# Altium integrated library Altium_WE-MAIA (rev24b).IntLib: 166 symbols (part 1 of 4)
Pins are listed as number, name and electrical type; pins without a type are passive.

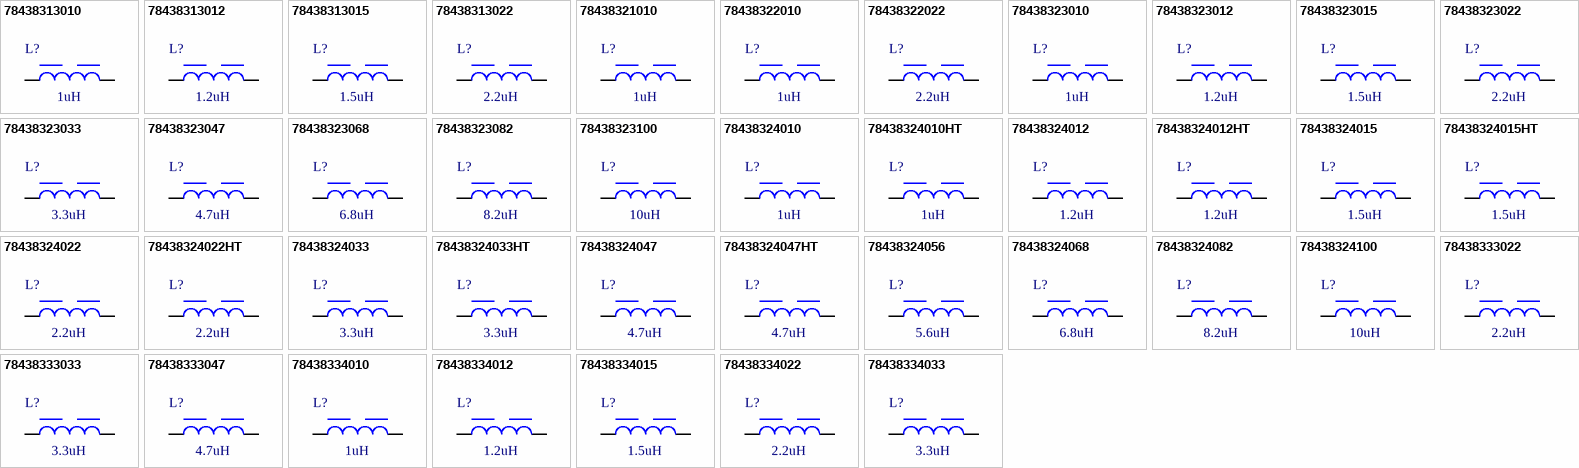
[diagram p0: symbols 78438313010 to 78438334033]

## 78438313010
designator L?, comment 1uH
WE-MAIA SMT Power Inductor, size 1610, 1uH, 2.2A, 159mOhm; Manufacturer Part Number: 78438313010; Manufacturer: Wurth Elektronik; Case/Size Code: 1610; Saturation Current @ 10%: 2.25A; Saturation Current @ 30%: 4.25A; Self Resonant Frequency: 111MHz; Category: Power Inductors; Match Code: WE-MAIA; ComponentLink1Description: Website Link; ComponentLink1URL: https://www.we-online.com/redexpert/article/78438313010?ad; ComponentLink2Description: Datasheet Link; ComponentLink2URL: https://www.we-online.com/redexpert/spec/78438313010?ad; Mount: Surface Mount; Operating Temperature Max: 125°C; Operating Temperature Min: -40°C; Packaging: Tape and Reel; Length: 1.6mm; Width: 1.6mm; Height: 1mm; Automotive: Yes; DC Resistance Max: 159mOhm; Inductance: 1uH; Rated Current: 2.2A
footprint WE-MAIA_1610
simulation model 1610_78438313010_1u
pins: 1, 2

## 78438313012
designator L?, comment 1.2uH
WE-MAIA SMT Power Inductor, size 1610, 1.2uH, 2.1A, 174mOhm; Manufacturer Part Number: 78438313012; Manufacturer: Wurth Elektronik; Case/Size Code: 1610; Saturation Current @ 10%: 2.2A; Saturation Current @ 30%: 4.1A; Self Resonant Frequency: 109MHz; Category: Power Inductors; Match Code: WE-MAIA; ComponentLink1Description: Website Link; ComponentLink1URL: https://www.we-online.com/redexpert/article/78438313012?ad; ComponentLink2Description: Datasheet Link; ComponentLink2URL: https://www.we-online.com/redexpert/spec/78438313012?ad; Mount: Surface Mount; Operating Temperature Max: 125°C; Operating Temperature Min: -40°C; Packaging: Tape and Reel; Length: 1.6mm; Width: 1.6mm; Height: 1mm; Automotive: Yes; DC Resistance Max: 174mOhm; Inductance: 1.2uH; Rated Current: 2.1A
footprint WE-MAIA_1610
simulation model 1610_78438313012_1.2u
pins: 1, 2

## 78438313015
designator L?, comment 1.5uH
WE-MAIA SMT Power Inductor, size 1610, 1.5uH, 1.8A, 237mOhm; Manufacturer Part Number: 78438313015; Manufacturer: Wurth Elektronik; Case/Size Code: 1610; Saturation Current @ 30%: 3.45A; Self Resonant Frequency: 90MHz; Category: Power Inductors; Match Code: WE-MAIA; ComponentLink1Description: Website Link; ComponentLink1URL: https://www.we-online.com/redexpert/article/78438313015?ad; ComponentLink2Description: Datasheet Link; ComponentLink2URL: https://www.we-online.com/redexpert/spec/78438313015?ad; Mount: Surface Mount; Operating Temperature Max: 125°C; Operating Temperature Min: -40°C; Packaging: Tape and Reel; Length: 1.6mm; Width: 1.6mm; Height: 1mm; Automotive: Yes; DC Resistance Max: 237mOhm; Inductance: 1.5uH; Rated Current: 1.8A; Saturation Current @ 10%: 1.8A
footprint WE-MAIA_1610
simulation model 1610_78438313015_1.5u
pins: 1, 2

## 78438313022
designator L?, comment 2.2uH
WE-MAIA SMT Power Inductor, size 1610, 2.2uH, 1.25A, 388mOhm; Manufacturer Part Number: 78438313022; Manufacturer: Wurth Elektronik; Case/Size Code: 1610; Saturation Current @ 10%: 1.5A; Saturation Current @ 30%: 3.25A; Self Resonant Frequency: 70MHz; Category: Power Inductors; Match Code: WE-MAIA; ComponentLink1Description: Website Link; ComponentLink1URL: https://www.we-online.com/redexpert/article/78438313022?ad; ComponentLink2Description: Datasheet Link; ComponentLink2URL: https://www.we-online.com/redexpert/spec/78438313022?ad; Mount: Surface Mount; Operating Temperature Max: 125°C; Operating Temperature Min: -40°C; Packaging: Tape and Reel; Length: 1.6mm; Width: 1.6mm; Height: 1mm; Automotive: Yes; DC Resistance Max: 388mOhm; Inductance: 2.2uH; Rated Current: 1.25A
footprint WE-MAIA_1610
simulation model 1610_78438313022_2.2u
pins: 1, 2

## 78438321010
designator L?, comment 1uH
WE-MAIA SMT Power Inductor, size 2506, 1uH, 2.1A, 196mOhm; Manufacturer Part Number: 78438321010; Manufacturer: Wurth Elektronik; Case/Size Code: 2506; Saturation Current @ 10%: 1.7A; Saturation Current @ 30%: 3.25A; Self Resonant Frequency: 90MHz; Category: Power Inductors; Match Code: WE-MAIA; ComponentLink1Description: Website Link; ComponentLink1URL: https://www.we-online.com/redexpert/article/78438321010?ad; ComponentLink2Description: Datasheet Link; ComponentLink2URL: https://www.we-online.com/redexpert/spec/78438321010?ad; Mount: Surface Mount; Operating Temperature Max: 125°C; Operating Temperature Min: -40°C; Packaging: Tape and Reel; Length: 2.5mm; Width: 2mm; Height: 0.6mm; Automotive: Yes; DC Resistance Max: 196mOhm; Inductance: 1uH; Rated Current: 2.1A
footprint WE-MAIA_2506
simulation model 2506_78438321010_1u
pins: 1, 2

## 78438322010
designator L?, comment 1uH
WE-MAIA SMT Power Inductor, size 2508, 1uH, 2.65A, 133mOhm; Manufacturer Part Number: 78438322010; Manufacturer: Wurth Elektronik; Case/Size Code: 2508; Saturation Current @ 10%: 2.15A; Saturation Current @ 30%: 4.4A; Self Resonant Frequency: 100MHz; Category: Power Inductors; Match Code: WE-MAIA; ComponentLink1Description: Website Link; ComponentLink1URL: https://www.we-online.com/redexpert/article/78438322010?ad; ComponentLink2Description: Datasheet Link; ComponentLink2URL: https://www.we-online.com/redexpert/spec/78438322010?ad; Mount: Surface Mount; Operating Temperature Max: 125°C; Operating Temperature Min: -40°C; Packaging: Tape and Reel; Length: 2.5mm; Width: 2mm; Height: 0.8mm; Automotive: Yes; DC Resistance Max: 133mOhm; Inductance: 1uH; Rated Current: 2.65A
footprint WE-MAIA_2508
simulation model 2508_78438322010_1u
pins: 1, 2

## 78438322022
designator L?, comment 2.2uH
WE-MAIA SMT Power Inductor, size 2508, 2.2uH, 1.65A, 302mOhm; Manufacturer Part Number: 78438322022; Manufacturer: Wurth Elektronik; Case/Size Code: 2508; Saturation Current @ 10%: 1.4A; Saturation Current @ 30%: 2.8A; Self Resonant Frequency: 60MHz; Category: Power Inductors; Match Code: WE-MAIA; ComponentLink1Description: Website Link; ComponentLink1URL: https://www.we-online.com/redexpert/article/78438322022?ad; ComponentLink2Description: Datasheet Link; ComponentLink2URL: https://www.we-online.com/redexpert/spec/78438322022?ad; Mount: Surface Mount; Operating Temperature Max: 125°C; Operating Temperature Min: -40°C; Packaging: Tape and Reel; Length: 2.5mm; Width: 2mm; Height: 0.8mm; Automotive: Yes; DC Resistance Max: 302mOhm; Inductance: 2.2uH; Rated Current: 1.65A
footprint WE-MAIA_2508
simulation model 2508_78438322022_2.2u
pins: 1, 2

## 78438323010
designator L?, comment 1uH
WE-MAIA SMT Power Inductor, size 2510, 1uH, 3.55A, 75mOhm; Manufacturer Part Number: 78438323010; Manufacturer: Wurth Elektronik; Case/Size Code: 2510; Saturation Current @ 10%: 2.6A; Saturation Current @ 30%: 5.3A; Self Resonant Frequency: 80MHz; Category: Power Inductors; Match Code: WE-MAIA; ComponentLink1Description: Website Link; ComponentLink1URL: https://www.we-online.com/redexpert/article/78438323010?ad; ComponentLink2Description: Datasheet Link; ComponentLink2URL: https://www.we-online.com/redexpert/spec/78438323010?ad; Mount: Surface Mount; Operating Temperature Max: 125°C; Operating Temperature Min: -40°C; Packaging: Tape and Reel; Length: 2.5mm; Width: 2mm; Height: 1mm; Automotive: Yes; DC Resistance Max: 75mOhm; Inductance: 1uH; Rated Current: 3.55A
footprint WE-MAIA_2510
simulation model 2510_78438323010_1u
pins: 1, 2

## 78438323012
designator L?, comment 1.2uH
WE-MAIA SMT Power Inductor, size 2510, 1.2uH, 3.05A, 106mOhm; Manufacturer Part Number: 78438323012; Manufacturer: Wurth Elektronik; Case/Size Code: 2510; Saturation Current @ 10%: 2.45A; Saturation Current @ 30%: 4.85A; Self Resonant Frequency: 75MHz; Category: Power Inductors; Match Code: WE-MAIA; ComponentLink1Description: Website Link; ComponentLink1URL: https://www.we-online.com/redexpert/article/78438323012?ad; ComponentLink2Description: Datasheet Link; ComponentLink2URL: https://www.we-online.com/redexpert/spec/78438323012?ad; Mount: Surface Mount; Operating Temperature Max: 125°C; Operating Temperature Min: -40°C; Packaging: Tape and Reel; Length: 2.5mm; Width: 2mm; Height: 1mm; Automotive: Yes; DC Resistance Max: 106mOhm; Inductance: 1.2uH; Rated Current: 3.05A
footprint WE-MAIA_2510
simulation model 2510_78438323012_1.2u
pins: 1, 2

## 78438323015
designator L?, comment 1.5uH
WE-MAIA SMT Power Inductor, size 2510, 1.5uH, 2.85A, 110mOhm; Manufacturer Part Number: 78438323015; Manufacturer: Wurth Elektronik; Case/Size Code: 2510; Saturation Current @ 10%: 2.25A; Saturation Current @ 30%: 4.75A; Self Resonant Frequency: 65MHz; Category: Power Inductors; Match Code: WE-MAIA; ComponentLink1Description: Website Link; ComponentLink1URL: https://www.we-online.com/redexpert/article/78438323015?ad; ComponentLink2Description: Datasheet Link; ComponentLink2URL: https://www.we-online.com/redexpert/spec/78438323015?ad; Mount: Surface Mount; Operating Temperature Max: 125°C; Operating Temperature Min: -40°C; Packaging: Tape and Reel; Length: 2.5mm; Width: 2mm; Height: 1mm; Automotive: Yes; DC Resistance Max: 110mOhm; Inductance: 1.5uH; Rated Current: 2.85A
footprint WE-MAIA_2510
simulation model 2510_78438323015_1.5u
pins: 1, 2

## 78438323022
designator L?, comment 2.2uH
WE-MAIA SMT Power Inductor, size 2510, 2.2uH, 2.2A, 176mOhm; Manufacturer Part Number: 78438323022; Manufacturer: Wurth Elektronik; Case/Size Code: 2510; Saturation Current @ 10%: 2A; Saturation Current @ 30%: 3.55A; Self Resonant Frequency: 60MHz; Category: Power Inductors; Match Code: WE-MAIA; ComponentLink1Description: Website Link; ComponentLink1URL: https://www.we-online.com/redexpert/article/78438323022?ad; ComponentLink2Description: Datasheet Link; ComponentLink2URL: https://www.we-online.com/redexpert/spec/78438323022?ad; Mount: Surface Mount; Operating Temperature Max: 125°C; Operating Temperature Min: -40°C; Packaging: Tape and Reel; Length: 2.5mm; Width: 2mm; Height: 1mm; Automotive: Yes; DC Resistance Max: 176mOhm; Inductance: 2.2uH; Rated Current: 2.2A
footprint WE-MAIA_2510
simulation model 2510_78438323022_2.2u
pins: 1, 2

## 78438323033
designator L?, comment 3.3uH
WE-MAIA SMT Power Inductor, size 2510, 3.3uH, 1.75A, 264mOhm; Manufacturer Part Number: 78438323033; Manufacturer: Wurth Elektronik; Case/Size Code: 2510; Saturation Current @ 10%: 1.35A; Saturation Current @ 30%: 2.7A; Self Resonant Frequency: 50MHz; Category: Power Inductors; Match Code: WE-MAIA; ComponentLink1Description: Website Link; ComponentLink1URL: https://www.we-online.com/redexpert/article/78438323033?ad; ComponentLink2Description: Datasheet Link; ComponentLink2URL: https://www.we-online.com/redexpert/spec/78438323033?ad; Mount: Surface Mount; Operating Temperature Max: 125°C; Operating Temperature Min: -40°C; Packaging: Tape and Reel; Length: 2.5mm; Width: 2mm; Height: 1mm; Automotive: Yes; DC Resistance Max: 264mOhm; Inductance: 3.3uH; Rated Current: 1.75A
footprint WE-MAIA_2510
simulation model 2510_78438323033_3.3u
pins: 1, 2

## 78438323047
designator L?, comment 4.7uH
WE-MAIA SMT Power Inductor, size 2510, 4.7uH, 1.4A, 388mOhm; Manufacturer Part Number: 78438323047; Manufacturer: Wurth Elektronik; Case/Size Code: 2510; Saturation Current @ 10%: 1.1A; Saturation Current @ 30%: 2.3A; Self Resonant Frequency: 35MHz; Category: Power Inductors; Match Code: WE-MAIA; ComponentLink1Description: Website Link; ComponentLink1URL: https://www.we-online.com/redexpert/article/78438323047?ad; ComponentLink2Description: Datasheet Link; ComponentLink2URL: https://www.we-online.com/redexpert/spec/78438323047?ad; Mount: Surface Mount; Operating Temperature Max: 125°C; Operating Temperature Min: -40°C; Packaging: Tape and Reel; Length: 2.5mm; Width: 2mm; Height: 1mm; Automotive: Yes; DC Resistance Max: 388mOhm; Inductance: 4.7uH; Rated Current: 1.4A
footprint WE-MAIA_2510
simulation model 2510_78438323047_4.7u
pins: 1, 2

## 78438323068
designator L?, comment 6.8uH
WE-MAIA SMT Power Inductor, size 2510, 6.8uH, 1.05A, 648mOhm; Manufacturer Part Number: 78438323068; Manufacturer: Wurth Elektronik; Case/Size Code: 2510; Saturation Current @ 30%: 2A; Self Resonant Frequency: 30MHz; Category: Power Inductors; Match Code: WE-MAIA; ComponentLink1Description: Website Link; ComponentLink1URL: https://www.we-online.com/redexpert/article/78438323068?ad; ComponentLink2Description: Datasheet Link; ComponentLink2URL: https://www.we-online.com/redexpert/spec/78438323068?ad; Mount: Surface Mount; Operating Temperature Max: 125°C; Operating Temperature Min: -40°C; Packaging: Tape and Reel; Length: 2.5mm; Width: 2mm; Height: 1mm; Automotive: Yes; DC Resistance Max: 648mOhm; Inductance: 6.8uH; Rated Current: 1.05A; Saturation Current @ 10%: 1.05A
footprint WE-MAIA_2510
simulation model 2510_78438323068_6.8u
pins: 1, 2

## 78438323082
designator L?, comment 8.2uH
WE-MAIA SMT Power Inductor, size 2510, 8.2uH, 0.95A, 743mOhm; Manufacturer Part Number: 78438323082; Manufacturer: Wurth Elektronik; Case/Size Code: 2510; Saturation Current @ 10%: 0.9A; Saturation Current @ 30%: 1.85A; Self Resonant Frequency: 27MHz; Category: Power Inductors; Match Code: WE-MAIA; ComponentLink1Description: Website Link; ComponentLink1URL: https://www.we-online.com/redexpert/article/78438323082?ad; ComponentLink2Description: Datasheet Link; ComponentLink2URL: https://www.we-online.com/redexpert/spec/78438323082?ad; Mount: Surface Mount; Operating Temperature Max: 125°C; Operating Temperature Min: -40°C; Packaging: Tape and Reel; Length: 2.5mm; Width: 2mm; Height: 1mm; Automotive: Yes; DC Resistance Max: 743mOhm; Inductance: 8.2uH; Rated Current: 0.95A
footprint WE-MAIA_2510
simulation model 2510_78438323082_8.2u
pins: 1, 2

## 78438323100
designator L?, comment 10uH
WE-MAIA SMT Power Inductor, size 2510, 10uH, 0.9A, 843mOhm; Manufacturer Part Number: 78438323100; Manufacturer: Wurth Elektronik; Case/Size Code: 2510; Saturation Current @ 10%: 0.85A; Saturation Current @ 30%: 1.7A; Self Resonant Frequency: 25MHz; Category: Power Inductors; Match Code: WE-MAIA; ComponentLink1Description: Website Link; ComponentLink1URL: https://www.we-online.com/redexpert/article/78438323100?ad; ComponentLink2Description: Datasheet Link; ComponentLink2URL: https://www.we-online.com/redexpert/spec/78438323100?ad; Mount: Surface Mount; Operating Temperature Max: 125°C; Operating Temperature Min: -40°C; Packaging: Tape and Reel; Length: 2.5mm; Width: 2mm; Height: 1mm; Automotive: Yes; DC Resistance Max: 843mOhm; Inductance: 10uH; Rated Current: 0.9A
footprint WE-MAIA_2510
simulation model 2510_78438323100_10u
pins: 1, 2

## 78438324010
designator L?, comment 1uH
WE-MAIA SMT Power Inductor, size 2512, 1uH, 4.05A, 60mOhm; Manufacturer Part Number: 78438324010; Manufacturer: Wurth Elektronik; Case/Size Code: 2512; Saturation Current @ 10%: 3.2A; Saturation Current @ 30%: 6.3A; Self Resonant Frequency: 85MHz; Category: Power Inductors; Match Code: WE-MAIA; ComponentLink1Description: Website Link; ComponentLink1URL: https://www.we-online.com/redexpert/article/78438324010?ad; ComponentLink2Description: Datasheet Link; ComponentLink2URL: https://www.we-online.com/redexpert/spec/78438324010?ad; Mount: Surface Mount; Operating Temperature Max: 125°C; Operating Temperature Min: -40°C; Packaging: Tape and Reel; Length: 2.5mm; Width: 2mm; Height: 1.2mm; Automotive: Yes; DC Resistance Max: 60mOhm; Inductance: 1uH; Rated Current: 4.05A
footprint WE-MAIA_2512
simulation model 2512_78438324010_1u
pins: 1, 2

## 78438324010HT
designator L?, comment 1uH
WE-MAIA SMT Power Inductor, size 2512HT, 1uH, 3.9A, 61.5mOhm; Manufacturer Part Number: 78438324010HT; Manufacturer: Wurth Elektronik; Saturation Current @ 10%: 2.2A; Saturation Current @ 30%: 4.8A; Self Resonant Frequency: 71MHz; Category: Power Inductors; Match Code: WE-MAIA; ComponentLink1Description: Website Link; ComponentLink1URL: https://www.we-online.com/redexpert/article/78438324010HT?ad; ComponentLink2Description: Datasheet Link; ComponentLink2URL: https://www.we-online.com/redexpert/spec/78438324010HT?ad; Mount: Surface Mount; Operating Temperature Max: 150°C; Operating Temperature Min: -55°C; Packaging: Tape and Reel; Case/Size Code: 2512HT; Length: 2.5mm; Width: 2mm; Height: 1.2mm; Automotive: Yes; DC Resistance Max: 61.5mOhm; Inductance: 1uH; Rated Current: 3.9A
footprint WE-MAIA_2512HT
simulation model 2512HT_78438324010HT_1u
pins: 1, 2

## 78438324012
designator L?, comment 1.2uH
WE-MAIA SMT Power Inductor, size 2512, 1.2uH, 3.4A, 80mOhm; Manufacturer Part Number: 78438324012; Manufacturer: Wurth Elektronik; Case/Size Code: 2512; Saturation Current @ 10%: 3.05A; Saturation Current @ 30%: 5.8A; Self Resonant Frequency: 80MHz; Category: Power Inductors; Match Code: WE-MAIA; ComponentLink1Description: Website Link; ComponentLink1URL: https://www.we-online.com/redexpert/article/78438324012?ad; ComponentLink2Description: Datasheet Link; ComponentLink2URL: https://www.we-online.com/redexpert/spec/78438324012?ad; Mount: Surface Mount; Operating Temperature Max: 125°C; Operating Temperature Min: -40°C; Packaging: Tape and Reel; Length: 2.5mm; Width: 2mm; Height: 1.2mm; Automotive: Yes; DC Resistance Max: 80mOhm; Inductance: 1.2uH; Rated Current: 3.4A
footprint WE-MAIA_2512
simulation model 2512_78438324012_1.2u
pins: 1, 2

## 78438324012HT
designator L?, comment 1.2uH
WE-MAIA SMT Power Inductor, size 2512HT, 1.2uH, 3.5A, 74.7mOhm; Manufacturer Part Number: 78438324012HT; Manufacturer: Wurth Elektronik; Saturation Current @ 10%: 2.3A; Saturation Current @ 30%: 4.7A; Self Resonant Frequency: 67MHz; Category: Power Inductors; Match Code: WE-MAIA; ComponentLink1Description: Website Link; ComponentLink1URL: https://www.we-online.com/redexpert/article/78438324012HT?ad; ComponentLink2Description: Datasheet Link; ComponentLink2URL: https://www.we-online.com/redexpert/spec/78438324012HT?ad; Mount: Surface Mount; Operating Temperature Max: 150°C; Operating Temperature Min: -55°C; Packaging: Tape and Reel; Case/Size Code: 2512HT; Length: 2.5mm; Width: 2mm; Height: 1.2mm; Automotive: Yes; DC Resistance Max: 74.7mOhm; Inductance: 1.2uH; Rated Current: 3.5A
footprint WE-MAIA_2512HT
simulation model 2512HT_78438324012HT_1.2u
pins: 1, 2

## 78438324015
designator L?, comment 1.5uH
WE-MAIA SMT Power Inductor, size 2512, 1.5uH, 3.05A, 99mOhm; Manufacturer Part Number: 78438324015; Manufacturer: Wurth Elektronik; Case/Size Code: 2512; Saturation Current @ 10%: 2.5A; Saturation Current @ 30%: 4.7A; Self Resonant Frequency: 60MHz; Category: Power Inductors; Match Code: WE-MAIA; ComponentLink1Description: Website Link; ComponentLink1URL: https://www.we-online.com/redexpert/article/78438324015?ad; ComponentLink2Description: Datasheet Link; ComponentLink2URL: https://www.we-online.com/redexpert/spec/78438324015?ad; Mount: Surface Mount; Operating Temperature Max: 125°C; Operating Temperature Min: -40°C; Packaging: Tape and Reel; Length: 2.5mm; Width: 2mm; Height: 1.2mm; Automotive: Yes; DC Resistance Max: 99mOhm; Inductance: 1.5uH; Rated Current: 3.05A
footprint WE-MAIA_2512
simulation model 2512_78438324015_1.5u
pins: 1, 2

## 78438324015HT
designator L?, comment 1.5uH
WE-MAIA SMT Power Inductor, size 2512HT, 1.5uH, 2.9A, 102.1mOhm; Manufacturer Part Number: 78438324015HT; Manufacturer: Wurth Elektronik; Saturation Current @ 10%: 1.9A; Saturation Current @ 30%: 4A; Self Resonant Frequency: 56MHz; Category: Power Inductors; Match Code: WE-MAIA; ComponentLink1Description: Website Link; ComponentLink1URL: https://www.we-online.com/redexpert/article/78438324015HT?ad; ComponentLink2Description: Datasheet Link; ComponentLink2URL: https://www.we-online.com/redexpert/spec/78438324015HT?ad; Mount: Surface Mount; Operating Temperature Max: 150°C; Operating Temperature Min: -55°C; Packaging: Tape and Reel; Case/Size Code: 2512HT; Length: 2.5mm; Width: 2mm; Height: 1.2mm; Automotive: Yes; DC Resistance Max: 102.1mOhm; Inductance: 1.5uH; Rated Current: 2.9A
footprint WE-MAIA_2512HT
simulation model 2512HT_78438324015HT_1.5u
pins: 1, 2

## 78438324022
designator L?, comment 2.2uH
WE-MAIA SMT Power Inductor, size 2512, 2.2uH, 2.45A, 141mOhm; Manufacturer Part Number: 78438324022; Manufacturer: Wurth Elektronik; Case/Size Code: 2512; Saturation Current @ 10%: 1.85A; Saturation Current @ 30%: 3.65A; Self Resonant Frequency: 57MHz; Category: Power Inductors; Match Code: WE-MAIA; ComponentLink1Description: Website Link; ComponentLink1URL: https://www.we-online.com/redexpert/article/78438324022?ad; ComponentLink2Description: Datasheet Link; ComponentLink2URL: https://www.we-online.com/redexpert/spec/78438324022?ad; Mount: Surface Mount; Operating Temperature Max: 125°C; Operating Temperature Min: -40°C; Packaging: Tape and Reel; Length: 2.5mm; Width: 2mm; Height: 1.2mm; Automotive: Yes; DC Resistance Max: 141mOhm; Inductance: 2.2uH; Rated Current: 2.45A
footprint WE-MAIA_2512
simulation model 2512_78438324022_2.2u
pins: 1, 2

## 78438324022HT
designator L?, comment 2.2uH
WE-MAIA SMT Power Inductor, size 2512HT, 2.2uH, 2.2A, 162.5mOhm; Manufacturer Part Number: 78438324022HT; Manufacturer: Wurth Elektronik; Saturation Current @ 10%: 1.6A; Saturation Current @ 30%: 3.5A; Self Resonant Frequency: 53MHz; Category: Power Inductors; Match Code: WE-MAIA; ComponentLink1Description: Website Link; ComponentLink1URL: https://www.we-online.com/redexpert/article/78438324022HT?ad; ComponentLink2Description: Datasheet Link; ComponentLink2URL: https://www.we-online.com/redexpert/spec/78438324022HT?ad; Mount: Surface Mount; Operating Temperature Max: 150°C; Operating Temperature Min: -55°C; Packaging: Tape and Reel; Case/Size Code: 2512HT; Length: 2.5mm; Width: 2mm; Height: 1.2mm; Automotive: Yes; DC Resistance Max: 162.5mOhm; Inductance: 2.2uH; Rated Current: 2.2A
footprint WE-MAIA_2512HT
simulation model 2512HT_78438324022HT_2.2u
pins: 1, 2

## 78438324033
designator L?, comment 3.3uH
WE-MAIA SMT Power Inductor, size 2512, 3.3uH, 1.7A, 260mOhm; Manufacturer Part Number: 78438324033; Manufacturer: Wurth Elektronik; Case/Size Code: 2512; Saturation Current @ 10%: 1.75A; Saturation Current @ 30%: 3.3A; Self Resonant Frequency: 42MHz; Category: Power Inductors; Match Code: WE-MAIA; ComponentLink1Description: Website Link; ComponentLink1URL: https://www.we-online.com/redexpert/article/78438324033?ad; ComponentLink2Description: Datasheet Link; ComponentLink2URL: https://www.we-online.com/redexpert/spec/78438324033?ad; Mount: Surface Mount; Operating Temperature Max: 125°C; Operating Temperature Min: -40°C; Packaging: Tape and Reel; Length: 2.5mm; Width: 2mm; Height: 1.2mm; Automotive: Yes; DC Resistance Max: 260mOhm; Inductance: 3.3uH; Rated Current: 1.7A
footprint WE-MAIA_2512
simulation model 2512_78438324033_3.3u
pins: 1, 2

## 78438324033HT
designator L?, comment 3.3uH
WE-MAIA SMT Power Inductor, size 2512HT, 3.3uH, 1.7A, 274.7mOhm; Manufacturer Part Number: 78438324033HT; Manufacturer: Wurth Elektronik; Saturation Current @ 10%: 1.4A; Saturation Current @ 30%: 3A; Self Resonant Frequency: 42MHz; Category: Power Inductors; Match Code: WE-MAIA; ComponentLink1Description: Website Link; ComponentLink1URL: https://www.we-online.com/redexpert/article/78438324033HT?ad; ComponentLink2Description: Datasheet Link; ComponentLink2URL: https://www.we-online.com/redexpert/spec/78438324033HT?ad; Mount: Surface Mount; Operating Temperature Max: 150°C; Operating Temperature Min: -55°C; Packaging: Tape and Reel; Case/Size Code: 2512HT; Length: 2.5mm; Width: 2mm; Height: 1.2mm; Automotive: Yes; DC Resistance Max: 274.7mOhm; Inductance: 3.3uH; Rated Current: 1.7A
footprint WE-MAIA_2512HT
simulation model 2512HT_78438324033HT_3.3u
pins: 1, 2

## 78438324047
designator L?, comment 4.7uH
WE-MAIA SMT Power Inductor, size 2512, 4.7uH, 1.45A, 345mOhm; Manufacturer Part Number: 78438324047; Manufacturer: Wurth Elektronik; Case/Size Code: 2512; Saturation Current @ 10%: 1.4A; Saturation Current @ 30%: 2.65A; Self Resonant Frequency: 35MHz; Category: Power Inductors; Match Code: WE-MAIA; ComponentLink1Description: Website Link; ComponentLink1URL: https://www.we-online.com/redexpert/article/78438324047?ad; ComponentLink2Description: Datasheet Link; ComponentLink2URL: https://www.we-online.com/redexpert/spec/78438324047?ad; Mount: Surface Mount; Operating Temperature Max: 125°C; Operating Temperature Min: -40°C; Packaging: Tape and Reel; Length: 2.5mm; Width: 2mm; Height: 1.2mm; Automotive: Yes; DC Resistance Max: 345mOhm; Inductance: 4.7uH; Rated Current: 1.45A
footprint WE-MAIA_2512
simulation model 2512_78438324047_4.7u
pins: 1, 2

## 78438324047HT
designator L?, comment 4.7uH
WE-MAIA SMT Power Inductor, size 2512HT, 4.7uH, 1.4A, 367.6mOhm; Manufacturer Part Number: 78438324047HT; Manufacturer: Wurth Elektronik; Saturation Current @ 10%: 1.1A; Saturation Current @ 30%: 2.4A; Self Resonant Frequency: 33MHz; Category: Power Inductors; Match Code: WE-MAIA; ComponentLink1Description: Website Link; ComponentLink1URL: https://www.we-online.com/redexpert/article/78438324047HT?ad; ComponentLink2Description: Datasheet Link; ComponentLink2URL: https://www.we-online.com/redexpert/spec/78438324047HT?ad; Mount: Surface Mount; Operating Temperature Max: 150°C; Operating Temperature Min: -55°C; Packaging: Tape and Reel; Case/Size Code: 2512HT; Length: 2.5mm; Width: 2mm; Height: 1.2mm; Automotive: Yes; DC Resistance Max: 367.6mOhm; Inductance: 4.7uH; Rated Current: 1.4A
footprint WE-MAIA_2512HT
simulation model 2512HT_78438324047HT_4.7u
pins: 1, 2

## 78438324056
designator L?, comment 5.6uH
WE-MAIA SMT Power Inductor, size 2512, 5.6uH, 1.25A, 465mOhm; Manufacturer Part Number: 78438324056; Manufacturer: Wurth Elektronik; Case/Size Code: 2512; Saturation Current @ 10%: 1.15A; Saturation Current @ 30%: 2.2A; Self Resonant Frequency: 30MHz; Category: Power Inductors; Match Code: WE-MAIA; ComponentLink1Description: Website Link; ComponentLink1URL: https://www.we-online.com/redexpert/article/78438324056?ad; ComponentLink2Description: Datasheet Link; ComponentLink2URL: https://www.we-online.com/redexpert/spec/78438324056?ad; Mount: Surface Mount; Operating Temperature Max: 125°C; Operating Temperature Min: -40°C; Packaging: Tape and Reel; Length: 2.5mm; Width: 2mm; Height: 1.2mm; Automotive: Yes; DC Resistance Max: 465mOhm; Inductance: 5.6uH; Rated Current: 1.25A
footprint WE-MAIA_2512
simulation model 2512_78438324056_5.6u
pins: 1, 2

## 78438324068
designator L?, comment 6.8uH
WE-MAIA SMT Power Inductor, size 2512, 6.8uH, 1.05A, 640mOhm; Manufacturer Part Number: 78438324068; Manufacturer: Wurth Elektronik; Case/Size Code: 2512; Saturation Current @ 10%: 1A; Saturation Current @ 30%: 2.05A; Self Resonant Frequency: 27MHz; Category: Power Inductors; Match Code: WE-MAIA; ComponentLink1Description: Website Link; ComponentLink1URL: https://www.we-online.com/redexpert/article/78438324068?ad; ComponentLink2Description: Datasheet Link; ComponentLink2URL: https://www.we-online.com/redexpert/spec/78438324068?ad; Mount: Surface Mount; Operating Temperature Max: 125°C; Operating Temperature Min: -40°C; Packaging: Tape and Reel; Length: 2.5mm; Width: 2mm; Height: 1.2mm; Automotive: Yes; DC Resistance Max: 640mOhm; Inductance: 6.8uH; Rated Current: 1.05A
footprint WE-MAIA_2512
simulation model 2512_78438324068_6.8u
pins: 1, 2

## 78438324082
designator L?, comment 8.2uH
WE-MAIA SMT Power Inductor, size 2512, 8.2uH, 0.95A, 720mOhm; Manufacturer Part Number: 78438324082; Manufacturer: Wurth Elektronik; Case/Size Code: 2512; Saturation Current @ 10%: 1A; Saturation Current @ 30%: 1.9A; Self Resonant Frequency: 25MHz; Category: Power Inductors; Match Code: WE-MAIA; ComponentLink1Description: Website Link; ComponentLink1URL: https://www.we-online.com/redexpert/article/78438324082?ad; ComponentLink2Description: Datasheet Link; ComponentLink2URL: https://www.we-online.com/redexpert/spec/78438324082?ad; Mount: Surface Mount; Operating Temperature Max: 125°C; Operating Temperature Min: -40°C; Packaging: Tape and Reel; Length: 2.5mm; Width: 2mm; Height: 1.2mm; Automotive: Yes; DC Resistance Max: 720mOhm; Inductance: 8.2uH; Rated Current: 0.95A
footprint WE-MAIA_2512
simulation model 2512_78438324082_8.2u
pins: 1, 2

## 78438324100
designator L?, comment 10uH
WE-MAIA SMT Power Inductor, size 2512, 10uH, 0.9A, 780mOhm; Manufacturer Part Number: 78438324100; Manufacturer: Wurth Elektronik; Case/Size Code: 2512; Saturation Current @ 10%: 0.95A; Saturation Current @ 30%: 1.75A; Self Resonant Frequency: 23MHz; Category: Power Inductors; Match Code: WE-MAIA; ComponentLink1Description: Website Link; ComponentLink1URL: https://www.we-online.com/redexpert/article/78438324100?ad; ComponentLink2Description: Datasheet Link; ComponentLink2URL: https://www.we-online.com/redexpert/spec/78438324100?ad; Mount: Surface Mount; Operating Temperature Max: 125°C; Operating Temperature Min: -40°C; Packaging: Tape and Reel; Length: 2.5mm; Width: 2mm; Height: 1.2mm; Automotive: Yes; DC Resistance Max: 780mOhm; Inductance: 10uH; Rated Current: 0.9A
footprint WE-MAIA_2512
simulation model 2512_78438324100_10u
pins: 1, 2

## 78438333022
designator L?, comment 2.2uH
WE-MAIA SMT Power Inductor, size 3010, 2.2uH, 2.35A, 172mOhm; Manufacturer Part Number: 78438333022; Manufacturer: Wurth Elektronik; Case/Size Code: 3010; Saturation Current @ 10%: 2.75A; Saturation Current @ 30%: 4.85A; Self Resonant Frequency: 50MHz; Category: Power Inductors; Match Code: WE-MAIA; ComponentLink1Description: Website Link; ComponentLink1URL: https://www.we-online.com/redexpert/article/78438333022?ad; ComponentLink2Description: Datasheet Link; ComponentLink2URL: https://www.we-online.com/redexpert/spec/78438333022?ad; Mount: Surface Mount; Operating Temperature Max: 125°C; Operating Temperature Min: -40°C; Packaging: Tape and Reel; Length: 3mm; Width: 3mm; Height: 1mm; Automotive: Yes; DC Resistance Max: 172mOhm; Inductance: 2.2uH; Rated Current: 2.35A
footprint WE-MAIA_3010
simulation model 3010_78438333022_2.2u
pins: 1, 2

## 78438333033
designator L?, comment 3.3uH
WE-MAIA SMT Power Inductor, size 3010, 3.3uH, 1.85A, 266mOhm; Manufacturer Part Number: 78438333033; Manufacturer: Wurth Elektronik; Case/Size Code: 3010; Saturation Current @ 10%: 2.05A; Saturation Current @ 30%: 3.7A; Self Resonant Frequency: 38MHz; Category: Power Inductors; Match Code: WE-MAIA; ComponentLink1Description: Website Link; ComponentLink1URL: https://www.we-online.com/redexpert/article/78438333033?ad; ComponentLink2Description: Datasheet Link; ComponentLink2URL: https://www.we-online.com/redexpert/spec/78438333033?ad; Mount: Surface Mount; Operating Temperature Max: 125°C; Operating Temperature Min: -40°C; Packaging: Tape and Reel; Length: 3mm; Width: 3mm; Height: 1mm; Automotive: Yes; DC Resistance Max: 266mOhm; Inductance: 3.3uH; Rated Current: 1.85A
footprint WE-MAIA_3010
simulation model 3010_78438333033_3.3u
pins: 1, 2

## 78438333047
designator L?, comment 4.7uH
WE-MAIA SMT Power Inductor, size 3010, 4.7uH, 1.45A, 409mOhm; Manufacturer Part Number: 78438333047; Manufacturer: Wurth Elektronik; Case/Size Code: 3010; Saturation Current @ 10%: 1.65A; Saturation Current @ 30%: 3A; Self Resonant Frequency: 35MHz; Category: Power Inductors; Match Code: WE-MAIA; ComponentLink1Description: Website Link; ComponentLink1URL: https://www.we-online.com/redexpert/article/78438333047?ad; ComponentLink2Description: Datasheet Link; ComponentLink2URL: https://www.we-online.com/redexpert/spec/78438333047?ad; Mount: Surface Mount; Operating Temperature Max: 125°C; Operating Temperature Min: -40°C; Packaging: Tape and Reel; Length: 3mm; Width: 3mm; Height: 1mm; Automotive: Yes; DC Resistance Max: 409mOhm; Inductance: 4.7uH; Rated Current: 1.45A
footprint WE-MAIA_3010
simulation model 3010_78438333047_4.7u
pins: 1, 2

## 78438334010
designator L?, comment 1uH
WE-MAIA SMT Power Inductor, size 3012, 1uH, 4.75A, 50.5mOhm; Manufacturer Part Number: 78438334010; Manufacturer: Wurth Elektronik; Case/Size Code: 3012; Saturation Current @ 10%: 4.3A; Saturation Current @ 30%: 8.4A; Self Resonant Frequency: 80MHz; Category: Power Inductors; Match Code: WE-MAIA; ComponentLink1Description: Website Link; ComponentLink1URL: https://www.we-online.com/redexpert/article/78438334010?ad; ComponentLink2Description: Datasheet Link; ComponentLink2URL: https://www.we-online.com/redexpert/spec/78438334010?ad; Mount: Surface Mount; Operating Temperature Max: 125°C; Operating Temperature Min: -40°C; Packaging: Tape and Reel; Length: 3mm; Width: 3mm; Height: 1.2mm; Automotive: Yes; DC Resistance Max: 50.5mOhm; Inductance: 1uH; Rated Current: 4.75A
footprint WE-MAIA_3012
simulation model 3012_78438334010_1u
pins: 1, 2

## 78438334012
designator L?, comment 1.2uH
WE-MAIA SMT Power Inductor, size 3012, 1.2uH, 4.05A, 66mOhm; Manufacturer Part Number: 78438334012; Manufacturer: Wurth Elektronik; Case/Size Code: 3012; Saturation Current @ 10%: 4.15A; Saturation Current @ 30%: 7.5A; Self Resonant Frequency: 66MHz; Category: Power Inductors; Match Code: WE-MAIA; ComponentLink1Description: Website Link; ComponentLink1URL: https://www.we-online.com/redexpert/article/78438334012?ad; ComponentLink2Description: Datasheet Link; ComponentLink2URL: https://www.we-online.com/redexpert/spec/78438334012?ad; Mount: Surface Mount; Operating Temperature Max: 125°C; Operating Temperature Min: -40°C; Packaging: Tape and Reel; Length: 3mm; Width: 3mm; Height: 1.2mm; Automotive: Yes; DC Resistance Max: 66mOhm; Inductance: 1.2uH; Rated Current: 4.05A
footprint WE-MAIA_3012
simulation model 3012_78438334012_1.2u
pins: 1, 2

## 78438334015
designator L?, comment 1.5uH
WE-MAIA SMT Power Inductor, size 3012, 1.5uH, 3.3A, 96mOhm; Manufacturer Part Number: 78438334015; Manufacturer: Wurth Elektronik; Case/Size Code: 3012; Saturation Current @ 10%: 3.9A; Saturation Current @ 30%: 7.1A; Self Resonant Frequency: 60MHz; Category: Power Inductors; Match Code: WE-MAIA; ComponentLink1Description: Website Link; ComponentLink1URL: https://www.we-online.com/redexpert/article/78438334015?ad; ComponentLink2Description: Datasheet Link; ComponentLink2URL: https://www.we-online.com/redexpert/spec/78438334015?ad; Mount: Surface Mount; Operating Temperature Max: 125°C; Operating Temperature Min: -40°C; Packaging: Tape and Reel; Length: 3mm; Width: 3mm; Height: 1.2mm; Automotive: Yes; DC Resistance Max: 96mOhm; Inductance: 1.5uH; Rated Current: 3.3A
footprint WE-MAIA_3012
simulation model 3012_78438334015_1.5u
pins: 1, 2

## 78438334022
designator L?, comment 2.2uH
WE-MAIA SMT Power Inductor, size 3012, 2.2uH, 2.9A, 115mOhm; Manufacturer Part Number: 78438334022; Manufacturer: Wurth Elektronik; Case/Size Code: 3012; Saturation Current @ 10%: 3.6A; Saturation Current @ 30%: 6.1A; Self Resonant Frequency: 50MHz; Category: Power Inductors; Match Code: WE-MAIA; ComponentLink1Description: Website Link; ComponentLink1URL: https://www.we-online.com/redexpert/article/78438334022?ad; ComponentLink2Description: Datasheet Link; ComponentLink2URL: https://www.we-online.com/redexpert/spec/78438334022?ad; Mount: Surface Mount; Operating Temperature Max: 125°C; Operating Temperature Min: -40°C; Packaging: Tape and Reel; Length: 3mm; Width: 3mm; Height: 1.2mm; Automotive: Yes; DC Resistance Max: 115mOhm; Inductance: 2.2uH; Rated Current: 2.9A
footprint WE-MAIA_3012
simulation model 3012_78438334022_2.2u
pins: 1, 2

## 78438334033
designator L?, comment 3.3uH
WE-MAIA SMT Power Inductor, size 3012, 3.3uH, 2.25A, 179.7mOhm; Manufacturer Part Number: 78438334033; Manufacturer: Wurth Elektronik; Case/Size Code: 3012; Saturation Current @ 10%: 2.75A; Saturation Current @ 30%: 5.1A; Self Resonant Frequency: 36MHz; Category: Power Inductors; Match Code: WE-MAIA; ComponentLink1Description: Website Link; ComponentLink1URL: https://www.we-online.com/redexpert/article/78438334033?ad; ComponentLink2Description: Datasheet Link; ComponentLink2URL: https://www.we-online.com/redexpert/spec/78438334033?ad; Mount: Surface Mount; Operating Temperature Max: 125°C; Operating Temperature Min: -40°C; Packaging: Tape and Reel; Length: 3mm; Width: 3mm; Height: 1.2mm; Automotive: Yes; DC Resistance Max: 179.7mOhm; Inductance: 3.3uH; Rated Current: 2.25A
footprint WE-MAIA_3012
simulation model 3012_78438334033_3.3u
pins: 1, 2

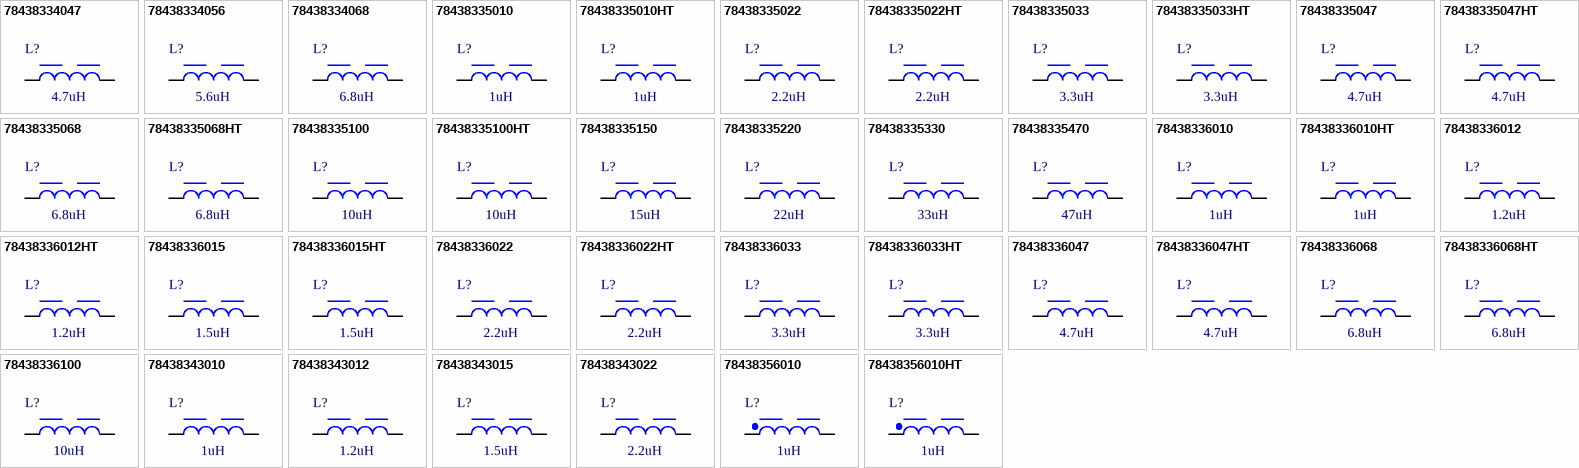
[diagram p1: symbols 78438334047 to 78438356010HT]

## 78438334047
designator L?, comment 4.7uH
WE-MAIA SMT Power Inductor, size 3012, 4.7uH, 1.7A, 307.8mOhm; Manufacturer Part Number: 78438334047; Manufacturer: Wurth Elektronik; Case/Size Code: 3012; Saturation Current @ 10%: 2.6A; Saturation Current @ 30%: 4.75A; Self Resonant Frequency: 30MHz; Category: Power Inductors; Match Code: WE-MAIA; ComponentLink1Description: Website Link; ComponentLink1URL: https://www.we-online.com/redexpert/article/78438334047?ad; ComponentLink2Description: Datasheet Link; ComponentLink2URL: https://www.we-online.com/redexpert/spec/78438334047?ad; Mount: Surface Mount; Operating Temperature Max: 125°C; Operating Temperature Min: -40°C; Packaging: Tape and Reel; Length: 3mm; Width: 3mm; Height: 1.2mm; Automotive: Yes; DC Resistance Max: 307.8mOhm; Inductance: 4.7uH; Rated Current: 1.7A
footprint WE-MAIA_3012
simulation model 3012_78438334047_4.7u
pins: 1, 2

## 78438334056
designator L?, comment 5.6uH
WE-MAIA SMT Power Inductor, size 3012, 5.6uH, 1.45A, 389mOhm; Manufacturer Part Number: 78438334056; Manufacturer: Wurth Elektronik; Case/Size Code: 3012; Saturation Current @ 10%: 2.1A; Saturation Current @ 30%: 3.7A; Self Resonant Frequency: 28MHz; Category: Power Inductors; Match Code: WE-MAIA; ComponentLink1Description: Website Link; ComponentLink1URL: https://www.we-online.com/redexpert/article/78438334056?ad; ComponentLink2Description: Datasheet Link; ComponentLink2URL: https://www.we-online.com/redexpert/spec/78438334056?ad; Mount: Surface Mount; Operating Temperature Max: 125°C; Operating Temperature Min: -40°C; Packaging: Tape and Reel; Length: 3mm; Width: 3mm; Height: 1.2mm; Automotive: Yes; DC Resistance Max: 389mOhm; Inductance: 5.6uH; Rated Current: 1.45A
footprint WE-MAIA_3012
simulation model 3012_78438334056_5.6u
pins: 1, 2

## 78438334068
designator L?, comment 6.8uH
WE-MAIA SMT Power Inductor, size 3012, 6.8uH, 1.4A, 423.4mOhm; Manufacturer Part Number: 78438334068; Manufacturer: Wurth Elektronik; Case/Size Code: 3012; Saturation Current @ 10%: 1.75A; Saturation Current @ 30%: 3.5A; Self Resonant Frequency: 25MHz; Category: Power Inductors; Match Code: WE-MAIA; ComponentLink1Description: Website Link; ComponentLink1URL: https://www.we-online.com/redexpert/article/78438334068?ad; ComponentLink2Description: Datasheet Link; ComponentLink2URL: https://www.we-online.com/redexpert/spec/78438334068?ad; Mount: Surface Mount; Operating Temperature Max: 125°C; Operating Temperature Min: -40°C; Packaging: Tape and Reel; Length: 3mm; Width: 3mm; Height: 1.2mm; Automotive: Yes; DC Resistance Max: 423.4mOhm; Inductance: 6.8uH; Rated Current: 1.4A
footprint WE-MAIA_3012
simulation model 3012_78438334068_6.8u
pins: 1, 2

## 78438335010
designator L?, comment 1uH
WE-MAIA SMT Power Inductor, size 3015, 1uH, 4.95A, 47mOhm; Manufacturer Part Number: 78438335010; Manufacturer: Wurth Elektronik; Case/Size Code: 3015; Saturation Current @ 10%: 3A; Saturation Current @ 30%: 5.95A; Self Resonant Frequency: 72MHz; Category: Power Inductors; Match Code: WE-MAIA; ComponentLink1Description: Website Link; ComponentLink1URL: https://www.we-online.com/redexpert/article/78438335010?ad; ComponentLink2Description: Datasheet Link; ComponentLink2URL: https://www.we-online.com/redexpert/spec/78438335010?ad; Mount: Surface Mount; Operating Temperature Max: 125°C; Operating Temperature Min: -40°C; Packaging: Tape and Reel; Length: 3mm; Width: 3mm; Height: 1.5mm; Automotive: Yes; DC Resistance Max: 47mOhm; Inductance: 1uH; Rated Current: 4.95A
footprint WE-MAIA_3015
simulation model 3015_78438335010_1u
pins: 1, 2

## 78438335010HT
designator L?, comment 1uH
WE-MAIA SMT Power Inductor, size 3015HT, 1uH, 4.5A, 53.2mOhm; Manufacturer Part Number: 78438335010HT; Manufacturer: Wurth Elektronik; Saturation Current @ 10%: 3A; Saturation Current @ 30%: 5.9A; Self Resonant Frequency: 73MHz; Category: Power Inductors; Match Code: WE-MAIA; ComponentLink1Description: Website Link; ComponentLink1URL: https://www.we-online.com/redexpert/article/78438335010HT?ad; ComponentLink2Description: Datasheet Link; ComponentLink2URL: https://www.we-online.com/redexpert/spec/78438335010HT?ad; Mount: Surface Mount; Operating Temperature Max: 150°C; Operating Temperature Min: -55°C; Packaging: Tape and Reel; Case/Size Code: 3015HT; Length: 3mm; Width: 3mm; Height: 1.5mm; Automotive: Yes; DC Resistance Max: 53.2mOhm; Inductance: 1uH; Rated Current: 4.5A
footprint WE-MAIA_3015HT
simulation model 3015HT_78438335010HT_1u
pins: 1, 2

## 78438335022
designator L?, comment 2.2uH
WE-MAIA SMT Power Inductor, size 3015, 2.2uH, 3A, 108mOhm; Manufacturer Part Number: 78438335022; Manufacturer: Wurth Elektronik; Case/Size Code: 3015; Saturation Current @ 10%: 2.5A; Saturation Current @ 30%: 4.2A; Self Resonant Frequency: 45MHz; Category: Power Inductors; Match Code: WE-MAIA; ComponentLink1Description: Website Link; ComponentLink1URL: https://www.we-online.com/redexpert/article/78438335022?ad; ComponentLink2Description: Datasheet Link; ComponentLink2URL: https://www.we-online.com/redexpert/spec/78438335022?ad; Mount: Surface Mount; Operating Temperature Max: 125°C; Operating Temperature Min: -40°C; Packaging: Tape and Reel; Length: 3mm; Width: 3mm; Height: 1.5mm; Automotive: Yes; DC Resistance Max: 108mOhm; Inductance: 2.2uH; Rated Current: 3A
footprint WE-MAIA_3015
simulation model 3015_78438335022_2.2u
pins: 1, 2

## 78438335022HT
designator L?, comment 2.2uH
WE-MAIA SMT Power Inductor, size 3015HT, 2.2uH, 3.2A, 96mOhm; Manufacturer Part Number: 78438335022HT; Manufacturer: Wurth Elektronik; Saturation Current @ 10%: 2.4A; Saturation Current @ 30%: 5A; Self Resonant Frequency: 42MHz; Category: Power Inductors; Match Code: WE-MAIA; ComponentLink1Description: Website Link; ComponentLink1URL: https://www.we-online.com/redexpert/article/78438335022HT?ad; ComponentLink2Description: Datasheet Link; ComponentLink2URL: https://www.we-online.com/redexpert/spec/78438335022HT?ad; Mount: Surface Mount; Operating Temperature Max: 150°C; Operating Temperature Min: -55°C; Packaging: Tape and Reel; Case/Size Code: 3015HT; Length: 3mm; Width: 3mm; Height: 1.5mm; Automotive: Yes; DC Resistance Max: 96mOhm; Inductance: 2.2uH; Rated Current: 3.2A
footprint WE-MAIA_3015HT
simulation model 3015HT_78438335022HT_2.2u
pins: 1, 2

## 78438335033
designator L?, comment 3.3uH
WE-MAIA SMT Power Inductor, size 3015, 3.3uH, 2.7A, 131mOhm; Manufacturer Part Number: 78438335033; Manufacturer: Wurth Elektronik; Case/Size Code: 3015; Saturation Current @ 10%: 2.25A; Saturation Current @ 30%: 3.85A; Self Resonant Frequency: 35MHz; Category: Power Inductors; Match Code: WE-MAIA; ComponentLink1Description: Website Link; ComponentLink1URL: https://www.we-online.com/redexpert/article/78438335033?ad; ComponentLink2Description: Datasheet Link; ComponentLink2URL: https://www.we-online.com/redexpert/spec/78438335033?ad; Mount: Surface Mount; Operating Temperature Max: 125°C; Operating Temperature Min: -40°C; Packaging: Tape and Reel; Length: 3mm; Width: 3mm; Height: 1.5mm; Automotive: Yes; DC Resistance Max: 131mOhm; Inductance: 3.3uH; Rated Current: 2.7A
footprint WE-MAIA_3015
simulation model 3015_78438335033_3.3u
pins: 1, 2

## 78438335033HT
designator L?, comment 3.3uH
WE-MAIA SMT Power Inductor, size 3015HT, 3.3uH, 2.7A, 133mOhm; Manufacturer Part Number: 78438335033HT; Manufacturer: Wurth Elektronik; Saturation Current @ 10%: 2A; Saturation Current @ 30%: 4A; Self Resonant Frequency: 35MHz; Category: Power Inductors; Match Code: WE-MAIA; ComponentLink1Description: Website Link; ComponentLink1URL: https://www.we-online.com/redexpert/article/78438335033HT?ad; ComponentLink2Description: Datasheet Link; ComponentLink2URL: https://www.we-online.com/redexpert/spec/78438335033HT?ad; Mount: Surface Mount; Operating Temperature Max: 150°C; Operating Temperature Min: -55°C; Packaging: Tape and Reel; Case/Size Code: 3015HT; Length: 3mm; Width: 3mm; Height: 1.5mm; Automotive: Yes; DC Resistance Max: 133mOhm; Inductance: 3.3uH; Rated Current: 2.7A
footprint WE-MAIA_3015HT
simulation model 3015HT_78438335033HT_3.3u
pins: 1, 2

## 78438335047
designator L?, comment 4.7uH
WE-MAIA SMT Power Inductor, size 3015, 4.7uH, 2.4A, 162mOhm; Manufacturer Part Number: 78438335047; Manufacturer: Wurth Elektronik; Case/Size Code: 3015; Saturation Current @ 10%: 1.85A; Saturation Current @ 30%: 3.7A; Self Resonant Frequency: 30MHz; Category: Power Inductors; Match Code: WE-MAIA; ComponentLink1Description: Website Link; ComponentLink1URL: https://www.we-online.com/redexpert/article/78438335047?ad; ComponentLink2Description: Datasheet Link; ComponentLink2URL: https://www.we-online.com/redexpert/spec/78438335047?ad; Mount: Surface Mount; Operating Temperature Max: 125°C; Operating Temperature Min: -40°C; Packaging: Tape and Reel; Length: 3mm; Width: 3mm; Height: 1.5mm; Automotive: Yes; DC Resistance Max: 162mOhm; Inductance: 4.7uH; Rated Current: 2.4A
footprint WE-MAIA_3015
simulation model 3015_78438335047_4.7u
pins: 1, 2

## 78438335047HT
designator L?, comment 4.7uH
WE-MAIA SMT Power Inductor, size 3015HT, 4.7uH, 2.2A, 187.4mOhm; Manufacturer Part Number: 78438335047HT; Manufacturer: Wurth Elektronik; Saturation Current @ 10%: 1.4A; Saturation Current @ 30%: 3.2A; Self Resonant Frequency: 26MHz; Category: Power Inductors; Match Code: WE-MAIA; ComponentLink1Description: Website Link; ComponentLink1URL: https://www.we-online.com/redexpert/article/78438335047HT?ad; ComponentLink2Description: Datasheet Link; ComponentLink2URL: https://www.we-online.com/redexpert/spec/78438335047HT?ad; Mount: Surface Mount; Operating Temperature Max: 150°C; Operating Temperature Min: -55°C; Packaging: Tape and Reel; Case/Size Code: 3015HT; Length: 3mm; Width: 3mm; Height: 1.5mm; Automotive: Yes; DC Resistance Max: 187.4mOhm; Inductance: 4.7uH; Rated Current: 2.2A
footprint WE-MAIA_3015HT
simulation model 3015HT_78438335047HT_4.7u
pins: 1, 2

## 78438335068
designator L?, comment 6.8uH
WE-MAIA SMT Power Inductor, size 3015, 6.8uH, 1.75A, 287mOhm; Manufacturer Part Number: 78438335068; Manufacturer: Wurth Elektronik; Case/Size Code: 3015; Saturation Current @ 10%: 1.6A; Saturation Current @ 30%: 3.1A; Self Resonant Frequency: 25MHz; Category: Power Inductors; Match Code: WE-MAIA; ComponentLink1Description: Website Link; ComponentLink1URL: https://www.we-online.com/redexpert/article/78438335068?ad; ComponentLink2Description: Datasheet Link; ComponentLink2URL: https://www.we-online.com/redexpert/spec/78438335068?ad; Mount: Surface Mount; Operating Temperature Max: 125°C; Operating Temperature Min: -40°C; Packaging: Tape and Reel; Length: 3mm; Width: 3mm; Height: 1.5mm; Automotive: Yes; DC Resistance Max: 287mOhm; Inductance: 6.8uH; Rated Current: 1.75A
footprint WE-MAIA_3015
simulation model 3015_78438335068_6.8u
pins: 1, 2

## 78438335068HT
designator L?, comment 6.8uH
WE-MAIA SMT Power Inductor, size 3015HT, 6.8uH, 1.7A, 310.7mOhm; Manufacturer Part Number: 78438335068HT; Manufacturer: Wurth Elektronik; Saturation Current @ 10%: 1.4A; Saturation Current @ 30%: 3A; Self Resonant Frequency: 22MHz; Category: Power Inductors; Match Code: WE-MAIA; ComponentLink1Description: Website Link; ComponentLink1URL: https://www.we-online.com/redexpert/article/78438335068HT?ad; ComponentLink2Description: Datasheet Link; ComponentLink2URL: https://www.we-online.com/redexpert/spec/78438335068HT?ad; Mount: Surface Mount; Operating Temperature Max: 150°C; Operating Temperature Min: -55°C; Packaging: Tape and Reel; Case/Size Code: 3015HT; Length: 3mm; Width: 3mm; Height: 1.5mm; Automotive: Yes; DC Resistance Max: 310.7mOhm; Inductance: 6.8uH; Rated Current: 1.7A
footprint WE-MAIA_3015HT
simulation model 3015HT_78438335068HT_6.8u
pins: 1, 2

## 78438335100
designator L?, comment 10uH
WE-MAIA SMT Power Inductor, size 3015, 10uH, 1.25A, 513mOhm; Manufacturer Part Number: 78438335100; Manufacturer: Wurth Elektronik; Case/Size Code: 3015; Saturation Current @ 10%: 1.35A; Saturation Current @ 30%: 3A; Self Resonant Frequency: 21MHz; Category: Power Inductors; Match Code: WE-MAIA; ComponentLink1Description: Website Link; ComponentLink1URL: https://www.we-online.com/redexpert/article/78438335100?ad; ComponentLink2Description: Datasheet Link; ComponentLink2URL: https://www.we-online.com/redexpert/spec/78438335100?ad; Mount: Surface Mount; Operating Temperature Max: 125°C; Operating Temperature Min: -40°C; Packaging: Tape and Reel; Length: 3mm; Width: 3mm; Height: 1.5mm; Automotive: Yes; DC Resistance Max: 513mOhm; Inductance: 10uH; Rated Current: 1.25A
footprint WE-MAIA_3015
simulation model 3015_78438335100_10u
pins: 1, 2

## 78438335100HT
designator L?, comment 10uH
WE-MAIA SMT Power Inductor, size 3015HT, 10uH, 1.2A, 549.5mOhm; Manufacturer Part Number: 78438335100HT; Manufacturer: Wurth Elektronik; Saturation Current @ 10%: 1.1A; Saturation Current @ 30%: 2.4A; Self Resonant Frequency: 19MHz; Category: Power Inductors; Match Code: WE-MAIA; ComponentLink1Description: Website Link; ComponentLink1URL: https://www.we-online.com/redexpert/article/78438335100HT?ad; ComponentLink2Description: Datasheet Link; ComponentLink2URL: https://www.we-online.com/redexpert/spec/78438335100HT?ad; Mount: Surface Mount; Operating Temperature Max: 150°C; Operating Temperature Min: -55°C; Packaging: Tape and Reel; Case/Size Code: 3015HT; Length: 3mm; Width: 3mm; Height: 1.5mm; Automotive: Yes; DC Resistance Max: 549.5mOhm; Inductance: 10uH; Rated Current: 1.2A
footprint WE-MAIA_3015HT
simulation model 3015HT_78438335100HT_10u
pins: 1, 2